# Altium schematic symbol library LTC3624.SchLib: 1 symbol
Pins are listed as number, name and electrical type; pins without a type are passive.

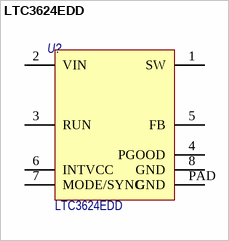
[diagram p0: symbol LTC3624EDD]

## LTC3624EDD
designator U?
17V, 2A Synchronous Step-Down Regulator; Потребление: 1; Назначение: Synchronous Step-Down Regulator; Наименование: LTC3624EDD
footprint DFN-8_EP_3x3_0.5 (8-pin DFN, 3.0mm x 3.0mm, 0.5mm pitch)
pins: 1 SW, 2 VIN, 3 RUN, 4 PGOOD, 5 FB, 6 INTVCC, 7 MODE/SYNC, 8 GND, PAD GND